# Altium integrated library Oscillators$.IntLib: 8 symbols
Pins are listed as number, name and electrical type; pins without a type are passive.

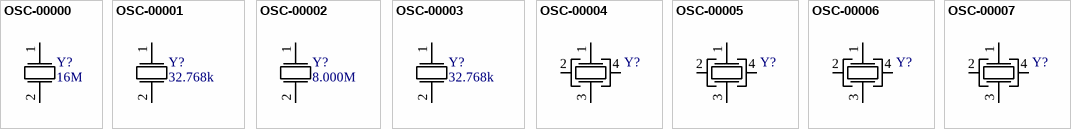
[diagram p0: symbols OSC-00000 to OSC-00007]

## OSC-00000
designator Y?, comment 16M
XTAL, 16MHz, 8pF, 50, 20ppm; Part Number: OSC-00000; Manufacturer: NDK; Manufacturer PN: NX5032GA-16MHZ-STD-CSK-4; ESR: 50; Stability: 30ppm; Frequency: 16M; Load Capacitance: 8pF; Tolerance: 20ppm; Cost: 0.65
footprint NX5032GA
pins: 1 20, 2 20

## OSC-00001
designator Y?, comment 32.768k
XTAL, 32kHz, 6pF, 20ppm; Part Number: OSC-00001; Manufacturer: Abracon; Manufacturer PN: ABS07-120-32.768KHZ-T; ESR: 55k; Stability: 100ppm; Frequency: 32.768k; Load Capacitance: 6pF; Tolerance: 20ppm
footprint SMD2_3.2x1.5
pins: 1 20, 2 20

## OSC-00002
designator Y?, comment 8.000M
XTAL, 8MHz, 18pF, 20ppm; Part Number: OSC-00002; Manufacturer: Abracon; Manufacturer PN: ABLS-8.000MHZ-B2-T; ESR: 80; Stability: 50ppm; Frequency: 8.000M; Load Capacitance: 18pF; Tolerance: 20ppm
footprint ABLS_AT49_OSC
pins: 1 20, 2 20

## OSC-00003
designator Y?, comment 32.768k
XTAL, 32.768kHz, 6pF, 20ppm; Part Number: OSC-00003; Manufacturer: Abracon; Manufacturer PN: ABS25-32.768KHZ-6-T; ESR: 50k; Frequency: 32.768k; Load Capacitance: 6pF; Tolerance: 20ppm
footprint ABS25_OSC
pins: 1 20, 2 20

## OSC-00004
designator Y?, comment osc_xtal_4p_1-3  (value not drawn)
XTAL, 24MHz, 8pF, 10ppm; Part Number: OSC-00004; Manufacturer: ECS Inc.; Manufacturer PN: ECS-240-8-47-CKM-TR; Frequency: 24M; ESR: 100; Load Capacitance: 8pF; Stability: 10ppm; Tolerance: 10ppm; Cost: 0.79
footprint ECX-1247
pins: 1, 2 GND, 3, 4 GND

## OSC-00005
designator Y?, comment osc_xtal_4p_1-3  (value not drawn)
XTAL, 25MHz, 20pF, 20ppm; Part Number: OSC-00005; Manufacturer: ECS Inc.; Manufacturer PN: ECS-250-20-33-JTN-TR; Frequency: 25M; ESR: 40; Load Capacitance: 20pF; Stability: 20ppm; Tolerance: 20ppm; Cost: 0.56
footprint ECX-32
pins: 1, 2 GND, 3, 4 GND

## OSC-00006
designator Y?, comment osc_xtal_4p_1-3  (value not drawn)
XTAL, 8MHz, 10pF, 10ppm; Part Number: OSC-00006; Manufacturer: ECS Inc.; Manufacturer PN: ECS-80-10-30B-CWN-TR; Frequency: 8M; ESR: 100; Stability: 15ppm; Load Capacitance: 10pF; Tolerance: 10ppm; Cost: 0.86
footprint ECX-53B
pins: 1, 2 GND, 3, 4 GND

## OSC-00007
designator Y?, comment osc_xtal_4p_1-3  (value not drawn)
XTAL, 48MHz, 18pF, 20ppm; Part Number: OSC-00007; Manufacturer: Abracon; Manufacturer PN: ABM8-48.000MHZ-B2-T; Frequency: 48M; ESR: 35; Stability: 50ppm; Load Capacitance: 18pF; Tolerance: 20ppm; Cost: 0.65
footprint ABRACON_ABM8
pins: 1, 2 GND, 3, 4 GND